# Altium footprint library ESP32-C3-WROOM-2.PcbLib: 1 footprints
Each footprint in its own frame and in the unit in brackets; x right, y up, seen from the top. Pads: shape width x height; smd on the part's side, far side on the other; paste and mask are expansions set on the pad; w line width, h text height; cw(c..) or ccw(c..) is an arc to the next point about the centre after c.
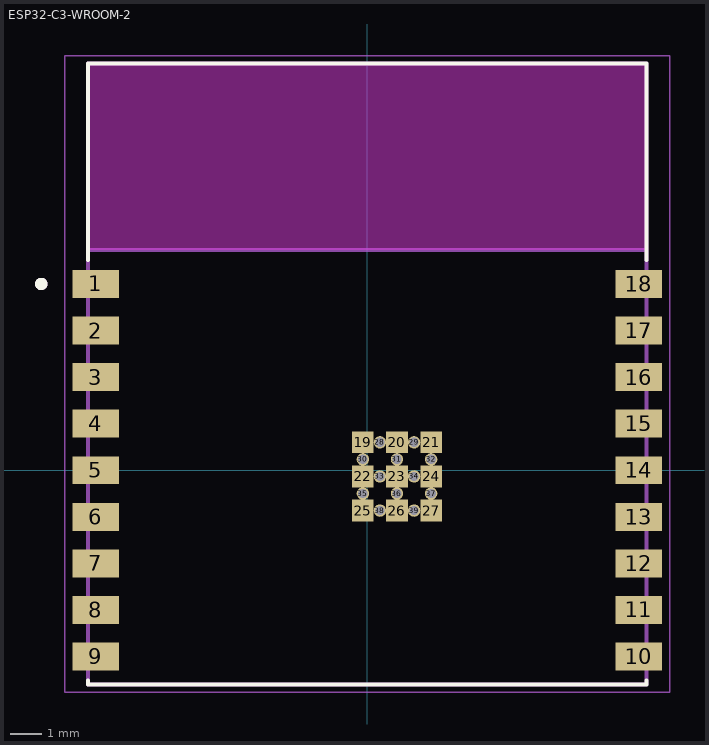
[diagram p0: the footprint, top view; thin cyan lines are the x and y axes]

## ESP32-C3-WROOM-2 [mm]
pads (39):
  rect 1.5x0.9 smd: 1(-8.75,6) 2(-8.75,4.5) 3(-8.75,3) 4(-8.75,1.5) 5(-8.75,0) 6(-8.75,-1.5) 7(-8.75,-3) 8(-8.75,-4.5) 9(-8.75,-6) 10(8.75,-6) 11(8.75,-4.5) 12(8.75,-3) 13(8.75,-1.5) 14(8.75,0) 15(8.75,1.5) 16(8.75,3) 17(8.75,4.5) 18(8.75,6)
  rect 0.7x0.7 smd: 19(-0.14,0.9) 20(0.96,0.9) 21(2.06,0.9) 22(-0.14,-0.2) 23(0.96,-0.2) 24(2.06,-0.2) 25(-0.14,-1.3) 26(0.96,-1.3) 27(2.06,-1.3)
  round 0.4 hole 0.3 mask+0: 28(0.41,0.9) 29(1.51,0.9) 30(-0.14,0.35) 31(0.96,0.35) 32(2.06,0.35) 33(0.41,-0.2) 34(1.51,-0.2) 35(-0.14,-0.75) 36(0.96,-0.75) 37(2.06,-0.75) 38(0.41,-1.3) 39(1.51,-1.3)
Top Overlay:
  circle w0.2: c-10.5,6 r0.1
  lines w0.127: -9,-6.77 -9,-6.9 9,-6.9 9,-6.77 ; -9,6.77 -9,13.1 9,13.1 9,6.77
Keep-Out Layer:
  region: 9,7.1 -9,7.1 -9,13.1 9,13.1
  region: 9,7.1 -9,7.1 -9,13.1 9,13.1
Mechanical 13:
  circle w0.2: c-10.5,6 r0.1
  lines w0.127: -9,7.1 9,7.1 ; -9,7.1 -9,-6.9 9,-6.9 9,7.1 ; -9,7.1 -9,13.1 9,13.1 9,7.1
Mechanical 15:
  lines w0.05: -9.75,-7.15 9.75,-7.15 9.75,13.35 -9.75,13.35 -9.75,-7.15
3D body "step_temp.STEP": height 3.35, standoff 0, extent -9,-6.9 9,13.1